# Altium schematic symbol library 5-102570-1.SchLib: 1 symbol
Pins are listed as number, name and electrical type; pins without a type are passive.

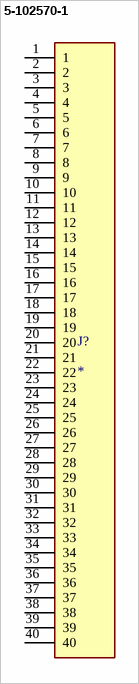
[diagram p0: symbol 5-102570-1]

## 5-102570-1
designator J?
60 MODII HDR DRRA SHRD .100CL; MF: {'manufacturer': u'TE Connectivity'}; MP: 5-102570-1; Availability: Unavailable; Price: None; Package: None; Value: *
footprint TE_5-102570-1
pins: 1, 2, 3, 4, 5, 6, 7, 8, 9, 10, 11, 12, 13, 14, 15, 16, 17, 18, 19, 20, 21, 22, 23, 24, 25, 26, 27, 28, 29, 30, 31, 32, 33, 34, 35, 36, 37, 38, 39, 40